# EAGLE library part ATTINY85 (library jyandev)
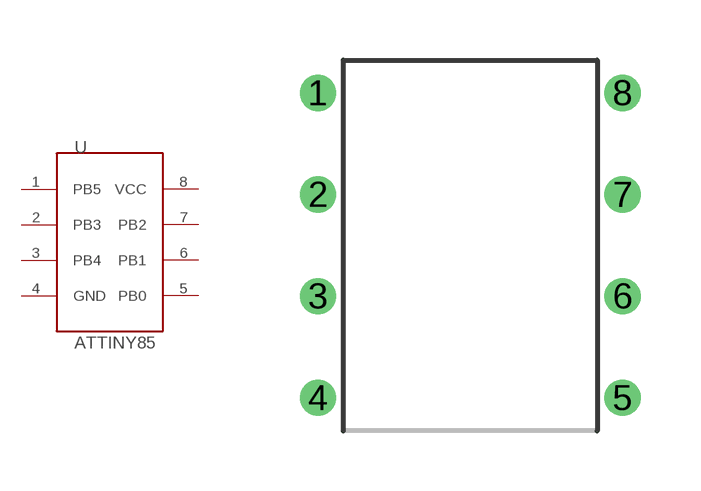
[diagram p0: symbol with the pads of ATTINY25/45/85_8P3; footprint ATTINY25/45/85_8P3]

Designator prefix U

## ATTINY85  [ATTINY25/45/85_8P3]
1  PB5
2  PB3
3  PB4
4  GND  pwr
5  PB0
6  PB1
7  PB2
8  VCC  pwr

## Footprint ATTINY25/45/85_8P3 (pad centres in mm)
8-lead, 0.300" Wide, Plastic Dual Inline Package (PDIP) Devices utilizing this package include: ATtiny85V-10PU ATtiny85-20PU
drill 0.4: 1 0,0; 2 0,-2.54; 3 0,-5.08; 4 0,-7.62; 5 7.62,-7.62; 6 7.62,-5.08; 7 7.62,-2.54; 8 7.62,0